# Altium footprint library Transistors.PcbLib: 5 footprints
Each footprint in its own frame and in the unit in brackets; x right, y up, seen from the top. Pads: shape width x height; smd on the part's side, far side on the other; paste and mask are expansions set on the pad; w line width, h text height; cw(c..) or ccw(c..) is an arc to the next point about the centre after c.
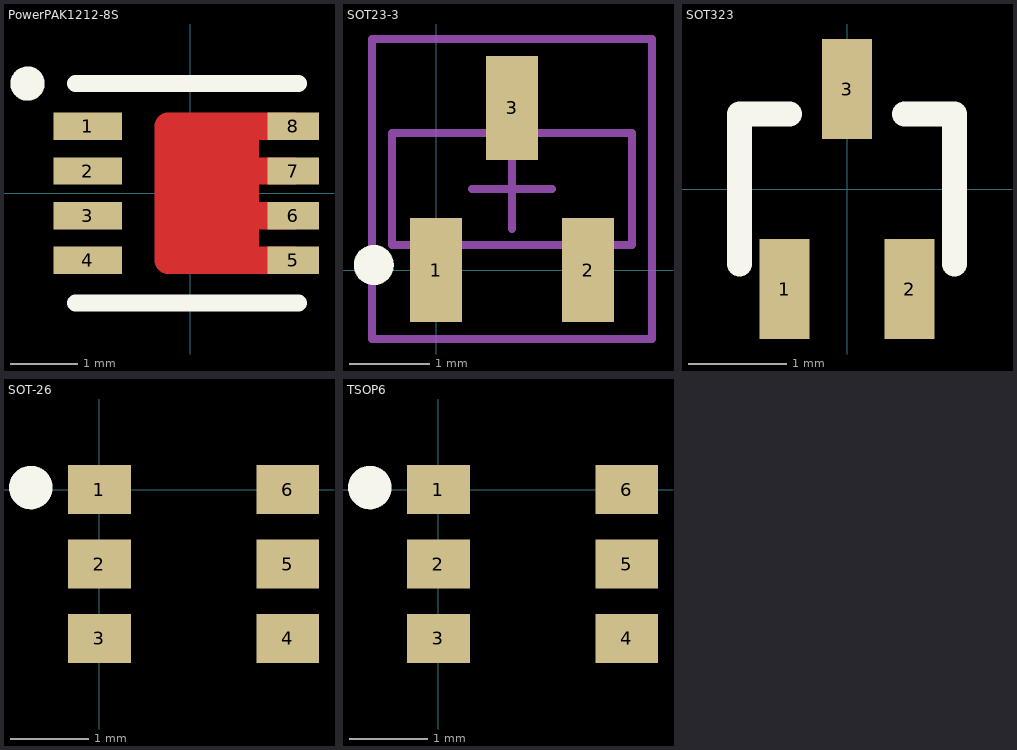
[diagram p0: the footprints below, top view; thin cyan lines are the x and y axes]

## PowerPAK1212-8S [mil]
pads (8):
  rect 40x16 smd: 1(-60,39) 2(-60,13) 3(-60,-13) 4(-60,-39)
  rect 30x16 smd: 5(60,-39) 6(60,-13) 7(60,13) 8(60,39)
Top Layer:
  lines w16: -13,-13 60,-13 ; -13,13 60,13 ; 2,-39 2,39 ; 17,-39 17,39 ; 32,-39 32,39 ; 60,-39 -13,-39 ; 60,39 -13,39 ; -13,-39 -13,39 ; -13,-39 -13,39
Top Overlay:
  circle w10: c-95,64 r5
  lines w10: -67,-64 63,-64 ; -67,64 63,64
Top Solder:
  rectangle: -25,-51 41,51
3D body: height 11.02, standoff 0, extent -14,-65 -4.5,-60
3D body: height 11.02, standoff 0, extent -14,60 -4.5,65
3D body: height 11.02, standoff 0, extent 60,-45 65,-33
3D body: height 11.02, standoff 0, extent 60,-19 65,-7
3D body: height 11.02, standoff 0, extent 60,7 65,19
3D body: height 11.02, standoff 0, extent 60,33 65,45
3D body: height 11.02, standoff 0, extent -65,-45 -60,-33
3D body: height 11.02, standoff 0, extent -65,-19 -60,-7
3D body: height 11.02, standoff 0, extent -65,7 -60,19
3D body: height 11.02, standoff 0, extent -65,33 -60,45
3D body: height 40.94, standoff 11.02, extent -57,-57 57,57
3D body: height 11.02, standoff 0, extent -60,-60 60,60

## SOT23-3 [mm] "SOT23, 3-Leads, Body 3,0x2,5mm (max), Pitch 0,83mm, IPC Medium Density"
height 1.1
pads (3):
  rect 0.65x1.3 smd paste-0.051 mask+0: 1(0,0) 2(1.9,0) 3(0.95,2.03)
Top Overlay:
  circle w0.25: c-0.78,0.065 r0.125
Mechanical 13:
  lines w0.1: -0.55,0.315 2.45,0.315 2.45,1.715 -0.55,1.715 -0.55,0.315
Mechanical 15:
  lines w0.1: 0.45,1.015 1.45,1.015 ; 0.95,0.515 0.95,1.515 ; -0.8,-0.86 2.7,-0.86 2.7,2.89 -0.8,2.89 -0.8,-0.86
3D body "User Library-sot23-1.STEP": height 1, standoff 0, extent -0.51,-0.155 2.41,2.185

## SOT323 [mil]
pads (3):
  rect 20x40 smd: 1(-25,-40) 2(25,-40) 3(0,40)
Top Overlay:
  lines w10: -43,-30 -43,30 -23,30 ; 23,30 43,30 43,-30
3D body "User Library-SOT323 (SC70-3)-1.STEP": height 43.31, standoff 0, extent -43.3,-45.19 43.31,43.2

## SOT-26 [mm]
pads (6):
  rect 0.8x0.63 smd: 1(0,0) 2(0,-0.95) 3(0,-1.9) 4(2.4,-1.9) 5(2.4,-0.95) 6(2.4,0)
Top Overlay:
  circle w0.254: c-0.875,0.025 r0.151
  circle w0.254: c-0.875,0.038 r0.04
3D body "User Library-TSOP-6.STEP": height 1, standoff 0, extent -0.137,-2.475 2.563,0.525

## TSOP6 [mm]
pads (6):
  rect 0.8x0.63 smd: 1(0,0) 2(0,-0.95) 3(0,-1.9) 4(2.4,-1.9) 5(2.4,-0.95) 6(2.4,0)
Top Overlay:
  circle w0.254: c-0.875,0.038 r0.04
  circle w0.254: c-0.875,0.025 r0.151
3D body "User Library-TSOP-6.STEP": height 1, standoff 0, extent -0.137,-2.475 2.563,0.525